# EAGLE library part TLW-124-05-T-D (library SAMTEC-Txx_By_element14_Batch_1)
LOW PROFILE HEADER, DOUBLE ROW, 44 way
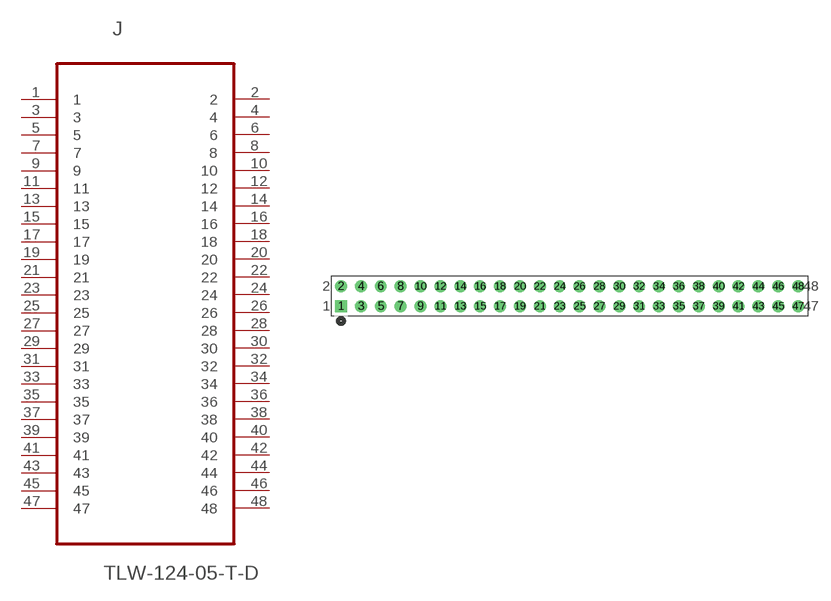
[diagram p281: symbol with the pads of SAMTEC_TLW-124-05-T-D; footprint SAMTEC_TLW-124-05-T-D]

Designator prefix J

## TLW-124-05-T-D (MPN: TLW-124-05-T-D; OC_FARNELL: -; OC_NEWARK: 12P0542; PACKAGE: LOW PROFILE HEADER; SUPPLIER: SAMTEC)  [SAMTEC_TLW-124-05-T-D]
1  1  pas
2  2  pas
3  3  pas
4  4  pas
5  5  pas
6  6  pas
7  7  pas
8  8  pas
9  9  pas
10  10  pas
11  11  pas
12  12  pas
13  13  pas
14  14  pas
15  15  pas
16  16  pas
17  17  pas
18  18  pas
19  19  pas
20  20  pas
21  21  pas
22  22  pas
23  23  pas
24  24  pas
25  25  pas
26  26  pas
27  27  pas
28  28  pas
29  29  pas
30  30  pas
31  31  pas
32  32  pas
33  33  pas
34  34  pas
35  35  pas
36  36  pas
37  37  pas
38  38  pas
39  39  pas
40  40  pas
41  41  pas
42  42  pas
43  43  pas
44  44  pas
45  45  pas
46  46  pas
47  47  pas
48  48  pas

## Footprint SAMTEC_TLW-124-05-T-D (pad centres in mm)
drill 1.016 square: 1 -58.42,-2.54
drill 1.016: 2 -58.42,0; 3 -55.88,-2.54; 4 -55.88,0; 5 -53.34,-2.54; 6 -53.34,0; 7 -50.8,-2.54; 8 -50.8,0; 9 -48.26,-2.54; 10 -48.26,0; 11 -45.72,-2.54; 12 -45.72,0; 13 -43.18,-2.54; 14 -43.18,0; 15 -40.64,-2.54; 16 -40.64,0; 17 -38.1,-2.54; 18 -38.1,0; 19 -35.56,-2.54; 20 -35.56,0; 21 -33.02,-2.54; 22 -33.02,0; 23 -30.48,-2.54; 24 -30.48,0; 25 -27.94,-2.54; 26 -27.94,0; 27 -25.4,-2.54; 28 -25.4,0; 29 -22.86,-2.54; 30 -22.86,0; 31 -20.32,-2.54; 32 -20.32,0; 33 -17.78,-2.54; 34 -17.78,0; 35 -15.24,-2.54; 36 -15.24,0; 37 -12.7,-2.54; 38 -12.7,0; 39 -10.16,-2.54; 40 -10.16,0; 41 -7.62,-2.54; 42 -7.62,0; 43 -5.08,-2.54; 44 -5.08,0; 45 -2.54,-2.54; 46 -2.54,0; 47 0,-2.54; 48 0,0